# EAGLE library part LM75ADP (library LM75)
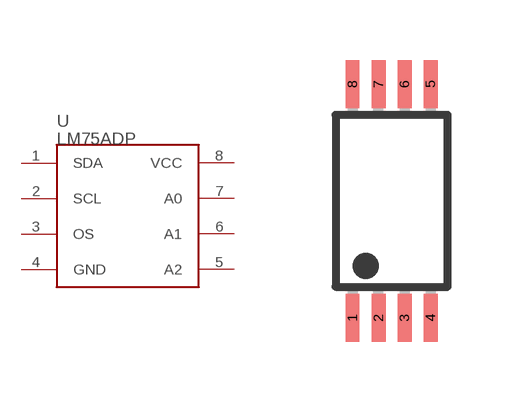
[diagram p1: symbol with the pads of TSSOP8; footprint TSSOP8]

Designator prefix -

## LM75ADP  [TSSOP8]
1  SDA  oc
2  SCL
3  OS
4  GND
5  A2
6  A1
7  A0
8  VCC

## Footprint TSSOP8 (pad centres in mm)
Thin Shrink Small Outline Package package type ST
smd 0.35 x 1.2: 1 -0.975,-2.925; 2 -0.325,-2.925; 3 0.325,-2.925; 4 0.975,-2.925; 5 0.975,2.925; 6 0.325,2.925; 7 -0.325,2.925; 8 -0.975,2.925